# Altium footprint library SnapEDApcb.PcbLib: 1 footprints
Each footprint in its own frame and in the unit in brackets; x right, y up, seen from the top. Pads: shape width x height; smd on the part's side, far side on the other; paste and mask are expansions set on the pad; w line width, h text height; cw(c..) or ccw(c..) is an arc to the next point about the centre after c.
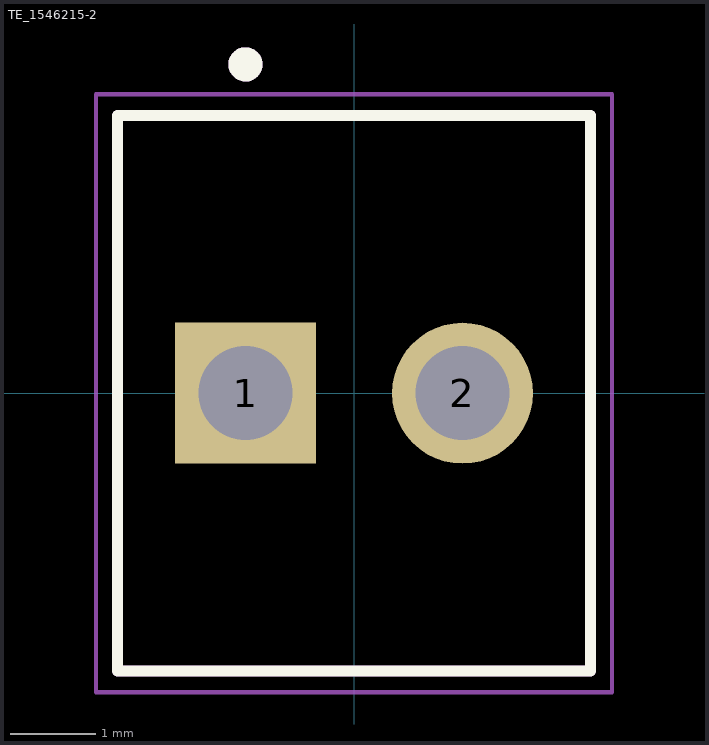
[diagram p0: the footprint, top view; thin cyan lines are the x and y axes]

## TE_1546215-2 [mm]
pads (2):
  rect 1.65x1.65 hole 1.1: 1(-1.27,0)
  round 1.65 hole 1.1: 2(1.27,0)
Top Overlay:
  circle w0.2: c-1.27,3.85 r0.1
  lines w0.127: -2.77,-3.25 2.77,-3.25 2.77,3.25 -2.77,3.25 -2.77,-3.25
Mechanical 13:
  circle w0.2: c-1.27,3.85 r0.1
  lines w0.127: -2.77,-3.25 2.77,-3.25 2.77,3.25 -2.77,3.25 -2.77,-3.25
Mechanical 15:
  lines w0.05: -3.02,-3.5 3.02,-3.5 3.02,3.5 -3.02,3.5 -3.02,-3.5
3D body "PCB Terminal Screw block.STEP": height 9.51, standoff -3.89, extent -2.725,-3.25 2.725,3.25